# Altium integrated library National Semiconductor Amplifier.IntLib: 1665 symbols (part 26 of 44)
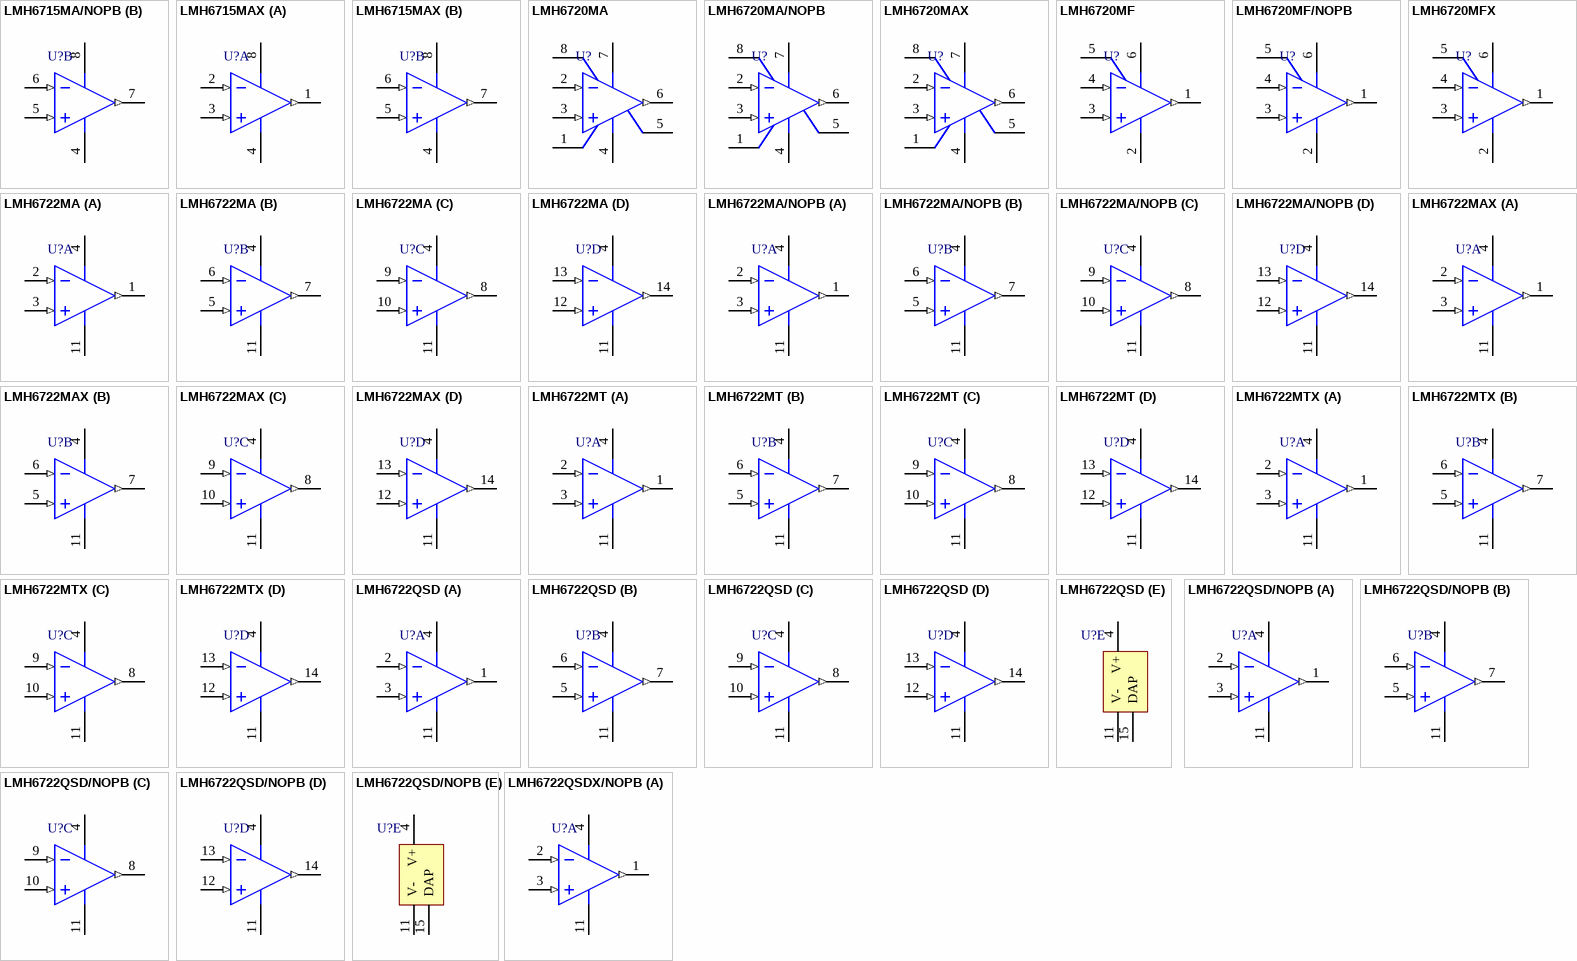
[diagram p109: symbols LMH6715MA/NOPB to LMH6722QSDX/NOPB]

## LMH6722MA/NOPB
designator U?
Quad Wideband Video Op Amp, 14-pin Narrow SOIC, Pb-Free; PartNumber: LMH6722MA/NOPB; Manufacturer: National Semiconductor; PackageTopMarking: NSUZXYTTE#*LMH67*22MA; PowerWise: Y; CompType: Amplifiers; DatasheetVersion: Oct-2008; PackageVersion: revJ, Jan-1996; PackageReference: M14A; PackageDescription: Molded Package S.O., .150in Wide, 14 Lead; RoHS: Y; PinCount: 14; High-Reliability: Y; Code_JEDEC: MS-012AB; Code_IPC: SOIC127P600-14; ComponentLink1Description: Manufacturer URL; ComponentLink1URL: http://www.national.com/; ComponentLink2Description: LMH6722 Datasheet; ComponentLink2URL: http://www.national.com/ds/LM/LMH6722.pdf; ComponentLink3Description: LMH6722 Web Page; ComponentLink3URL: http://www.national.com/pf/LM/LMH6722.html; ComponentLink4Description: M14A Package Page; ComponentLink4URL: http://www.national.com/packaging/folders/m14a.html
footprint M14A_N (SOIC, 14-Leads, Body 8.6x3.9mm, Pitch 1.27mm, IPC Medium Density)
footprint M14A_L (SOIC, 14-Leads, Body 8.6x3.9mm, Pitch 1.27mm, IPC High Density)
footprint M14A_M (SOIC, 14-Leads, Body 8.6x3.9mm, Pitch 1.27mm, IPC Low Density)
pins on every part: 4 V+ (power), 11 V- (power)
part A pins: 1 OUTA (out), 2 INA- (in), 3 INA+ (in)
part B pins: 5 INB+ (in), 6 INB- (in), 7 OUTB (out)
part C pins: 8 OUTC (out), 9 INC- (in), 10 INC+ (in)
part D pins: 12 IND+ (in), 13 IND- (in), 14 OUTD (out)

## LMH6722MAX
designator U?
Quad Wideband Video Op Amp, 14-pin Narrow SOIC; PartNumber: LMH6722MAX; Manufacturer: National Semiconductor; PackageTopMarking: NSUZXYTTE#*LMH67*22MA; PowerWise: Y; CompType: Amplifiers; DatasheetVersion: Oct-2008; PackageVersion: revJ, Jan-1996; PackageReference: M14A; PackageDescription: Molded Package S.O., .150in Wide, 14 Lead; RoHS: N; PinCount: 14; High-Reliability: Y; Code_JEDEC: MS-012AB; Code_IPC: SOIC127P600-14; ComponentLink1Description: Manufacturer URL; ComponentLink1URL: http://www.national.com/; ComponentLink2Description: LMH6722 Datasheet; ComponentLink2URL: http://www.national.com/ds/LM/LMH6722.pdf; ComponentLink3Description: LMH6722 Web Page; ComponentLink3URL: http://www.national.com/pf/LM/LMH6722.html; ComponentLink4Description: M14A Package Page; ComponentLink4URL: http://www.national.com/packaging/folders/m14a.html
footprint M14A_N (SOIC, 14-Leads, Body 8.6x3.9mm, Pitch 1.27mm, IPC Medium Density)
footprint M14A_L (SOIC, 14-Leads, Body 8.6x3.9mm, Pitch 1.27mm, IPC High Density)
footprint M14A_M (SOIC, 14-Leads, Body 8.6x3.9mm, Pitch 1.27mm, IPC Low Density)
pins on every part: 4 V+ (power), 11 V- (power)
part A pins: 1 OUTA (out), 2 INA- (in), 3 INA+ (in)
part B pins: 5 INB+ (in), 6 INB- (in), 7 OUTB (out)
part C pins: 8 OUTC (out), 9 INC- (in), 10 INC+ (in)
part D pins: 12 IND+ (in), 13 IND- (in), 14 OUTD (out)

## LMH6722MT
designator U?
Quad Wideband Video Op Amp, 14-pin TSSOP; PartNumber: LMH6722MT; Manufacturer: National Semiconductor; PackageTopMarking: NSUZXYTT*LMH67*22MT; PowerWise: Y; CompType: Amplifiers; DatasheetVersion: Oct-2008; PackageVersion: revD, Jun-2003; PackageReference: MTC14; PackageDescription: Molded TSSOP, JEDEC, 5 x 4.4 x 0.9mm Body, 14 Lead, 0.65mm Pitch; RoHS: N; PinCount: 14; High-Reliability: Y; Code_JEDEC: MO-153-AB-1; ComponentLink1Description: Manufacturer URL; ComponentLink1URL: http://www.national.com/; ComponentLink2Description: LMH6722 Datasheet; ComponentLink2URL: http://www.national.com/ds/LM/LMH6722.pdf; ComponentLink3Description: LMH6722 Web Page; ComponentLink3URL: http://www.national.com/pf/LM/LMH6722.html; ComponentLink4Description: MTC14 Package Page; ComponentLink4URL: http://www.national.com/packaging/folders/mtc14.html
footprint MTC14_N (TSOP, 14-Leads, Body 5x4.4mm, Pitch 0.65mm, IPC Medium Density)
footprint MTC14_L (TSOP, 14-Leads, Body 5x4.4mm, Pitch 0.65mm, IPC High Density)
footprint MTC14_M (TSOP, 14-Leads, Body 5x4.4mm, Pitch 0.65mm, IPC Low Density)
pins on every part: 4 V+ (power), 11 V- (power)
part A pins: 1 OUTA (out), 2 INA- (in), 3 INA+ (in)
part B pins: 5 INB+ (in), 6 INB- (in), 7 OUTB (out)
part C pins: 8 OUTC (out), 9 INC- (in), 10 INC+ (in)
part D pins: 12 IND+ (in), 13 IND- (in), 14 OUTD (out)

## LMH6722MTX
designator U?
Quad Wideband Video Op Amp, 14-pin TSSOP; PartNumber: LMH6722MTX; Manufacturer: National Semiconductor; PackageTopMarking: NSUZXYTT*LMH67*22MT; PowerWise: Y; CompType: Amplifiers; DatasheetVersion: Oct-2008; PackageVersion: revD, Jun-2003; PackageReference: MTC14; PackageDescription: Molded TSSOP, JEDEC, 5 x 4.4 x 0.9mm Body, 14 Lead, 0.65mm Pitch; RoHS: N; PinCount: 14; High-Reliability: Y; Code_JEDEC: MO-153-AB-1; ComponentLink1Description: Manufacturer URL; ComponentLink1URL: http://www.national.com/; ComponentLink2Description: LMH6722 Datasheet; ComponentLink2URL: http://www.national.com/ds/LM/LMH6722.pdf; ComponentLink3Description: LMH6722 Web Page; ComponentLink3URL: http://www.national.com/pf/LM/LMH6722.html; ComponentLink4Description: MTC14 Package Page; ComponentLink4URL: http://www.national.com/packaging/folders/mtc14.html
footprint MTC14_N (TSOP, 14-Leads, Body 5x4.4mm, Pitch 0.65mm, IPC Medium Density)
footprint MTC14_L (TSOP, 14-Leads, Body 5x4.4mm, Pitch 0.65mm, IPC High Density)
footprint MTC14_M (TSOP, 14-Leads, Body 5x4.4mm, Pitch 0.65mm, IPC Low Density)
pins on every part: 4 V+ (power), 11 V- (power)
part A pins: 1 OUTA (out), 2 INA- (in), 3 INA+ (in)
part B pins: 5 INB+ (in), 6 INB- (in), 7 OUTB (out)
part C pins: 8 OUTC (out), 9 INC- (in), 10 INC+ (in)
part D pins: 12 IND+ (in), 13 IND- (in), 14 OUTD (out)

## LMH6722QSD
designator U?
Quad Wideband Video Op Amp, 14-pin LLP; PartNumber: LMH6722QSD; Manufacturer: National Semiconductor; PackageTopMarking: ZXYTT*L6722Q; PowerWise: N; CompType: Amplifiers; High-Reliability: Y; DatasheetVersion: Oct-2008; PackageVersion: revA, Jun-2003; PackageReference: SDA14A; PackageDescription: LLP, Plastic, Dual, 4 x 3 x 0.8mm Body, 14 Lead, 0.5mm Pitch, No Pullback; RoHS: Y; PinCount: 14; ComponentLink1Description: Manufacturer URL; ComponentLink1URL: http://www.national.com/; ComponentLink2Description: LMH6722Q Datasheet; ComponentLink2URL: http://www.national.com/ds/LM/LMH6722.pdf; ComponentLink3Description: LMH6722Q Web Page; ComponentLink3URL: http://www.national.com/pf/LM/LMH6722Q.html; ComponentLink4Description: SDA14A Package Page; ComponentLink4URL: http://www.national.com/packaging/folders/sda14a.html
footprint SDA14A (SON, 14-Leads, Body 4x3mm, Pitch 0.5mm, NSC Recommended)
pins on every part: 4 V+ (power), 11 V- (power)
part A pins: 1 OUTA (out), 2 INA- (in), 3 INA+ (in)
part B pins: 5 INB+ (in), 6 INB- (in), 7 OUTB (out)
part C pins: 8 OUTC (out), 9 INC- (in), 10 INC+ (in)
part D pins: 12 IND+ (in), 13 IND- (in), 14 OUTD (out)
part E pins: 15 DAP

## LMH6722QSD/NOPB
designator U?
Quad Wideband Video Op Amp, 14-pin LLP, Pb-Free; PartNumber: LMH6722QSD/NOPB; Manufacturer: National Semiconductor; PackageTopMarking: ZXYTTE#*L6722Q; PowerWise: Y; CompType: Amplifiers; DatasheetVersion: Oct-2008; PackageVersion: revA, Jun-2003; PackageReference: SDA14A; PackageDescription: LLP, Plastic, Dual, 4 x 3 x 0.8mm Body, 14 Lead, 0.5mm Pitch, No Pullback; RoHS: Y; PinCount: 14; High-Reliability: Y; ComponentLink1Description: Manufacturer URL; ComponentLink1URL: http://www.national.com/; ComponentLink2Description: LMH6722 Datasheet; ComponentLink2URL: http://www.national.com/ds/LM/LMH6722.pdf; ComponentLink3Description: LMH6722 Web Page; ComponentLink3URL: http://www.national.com/pf/LM/LMH6722.html; ComponentLink4Description: SDA14A Package Page; ComponentLink4URL: http://www.national.com/packaging/folders/sda14a.html
footprint SDA14A (SON, 14-Leads, Body 4x3mm, Pitch 0.5mm, NSC Recommended)
pins on every part: 4 V+ (power), 11 V- (power)
part A pins: 1 OUTA (out), 2 INA- (in), 3 INA+ (in)
part B pins: 5 INB+ (in), 6 INB- (in), 7 OUTB (out)
part C pins: 8 OUTC (out), 9 INC- (in), 10 INC+ (in)
part D pins: 12 IND+ (in), 13 IND- (in), 14 OUTD (out)
part E pins: 15 DAP

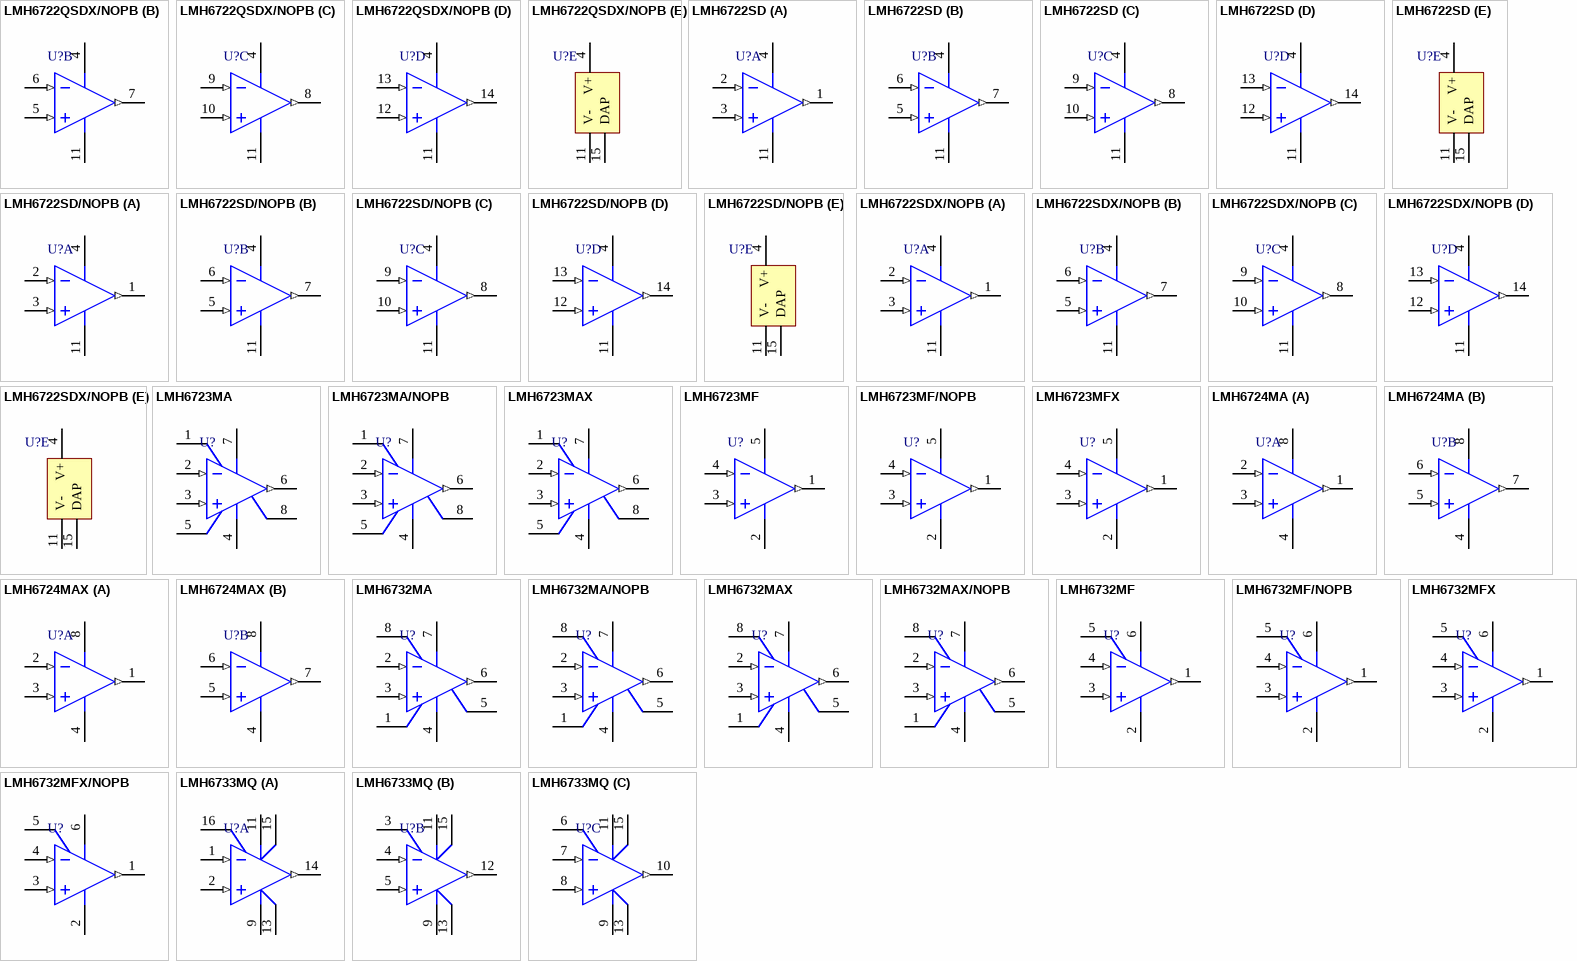
[diagram p52: symbols LMH6722QSDX/NOPB to LMH6733MQ]

## LMH6722QSDX/NOPB
designator U?
Quad Wideband Video Op Amp, 14-pin LLP, Pb-Free; PartNumber: LMH6722QSDX/NOPB; Manufacturer: National Semiconductor; PackageTopMarking: ZXYTTE#*L6722Q; PowerWise: Y; CompType: Amplifiers; DatasheetVersion: Oct-2008; PackageVersion: revA, Jun-2003; PackageReference: SDA14A; PackageDescription: LLP, Plastic, Dual, 4 x 3 x 0.8mm Body, 14 Lead, 0.5mm Pitch, No Pullback; RoHS: Y; PinCount: 14; High-Reliability: Y; ComponentLink1Description: Manufacturer URL; ComponentLink1URL: http://www.national.com/; ComponentLink2Description: LMH6722 Datasheet; ComponentLink2URL: http://www.national.com/ds/LM/LMH6722.pdf; ComponentLink3Description: LMH6722 Web Page; ComponentLink3URL: http://www.national.com/pf/LM/LMH6722.html; ComponentLink4Description: SDA14A Package Page; ComponentLink4URL: http://www.national.com/packaging/folders/sda14a.html
footprint SDA14A (SON, 14-Leads, Body 4x3mm, Pitch 0.5mm, NSC Recommended)
pins on every part: 4 V+ (power), 11 V- (power)
part A pins: 1 OUTA (out), 2 INA- (in), 3 INA+ (in)
part B pins: 5 INB+ (in), 6 INB- (in), 7 OUTB (out)
part C pins: 8 OUTC (out), 9 INC- (in), 10 INC+ (in)
part D pins: 12 IND+ (in), 13 IND- (in), 14 OUTD (out)
part E pins: 15 DAP

## LMH6722SD
designator U?
Quad Wideband Video Op Amp, 14-pin LLP; PartNumber: LMH6722SD; Manufacturer: National Semiconductor; PackageTopMarking: ZXYTT*L6722; PowerWise: N; CompType: Amplifiers; High-Reliability: Y; DatasheetVersion: Oct-2008; PackageVersion: revA, Jun-2003; PackageReference: SDA14A; PackageDescription: LLP, Plastic, Dual, 4 x 3 x 0.8mm Body, 14 Lead, 0.5mm Pitch, No Pullback; RoHS: Y; PinCount: 14; ComponentLink1Description: Manufacturer URL; ComponentLink1URL: http://www.national.com/; ComponentLink2Description: LMH6722 Datasheet; ComponentLink2URL: http://www.national.com/ds/LM/LMH6722.pdf; ComponentLink3Description: LMH6722 Web Page; ComponentLink3URL: http://www.national.com/pf/LM/LMH6722.html; ComponentLink4Description: SDA14A Package Page; ComponentLink4URL: http://www.national.com/packaging/folders/sda14a.html
footprint SDA14A (SON, 14-Leads, Body 4x3mm, Pitch 0.5mm, NSC Recommended)
pins on every part: 4 V+ (power), 11 V- (power)
part A pins: 1 OUTA (out), 2 INA- (in), 3 INA+ (in)
part B pins: 5 INB+ (in), 6 INB- (in), 7 OUTB (out)
part C pins: 8 OUTC (out), 9 INC- (in), 10 INC+ (in)
part D pins: 12 IND+ (in), 13 IND- (in), 14 OUTD (out)
part E pins: 15 DAP

## LMH6722SD/NOPB
designator U?
Quad Wideband Video Op Amp, 14-pin LLP, Pb-Free; PartNumber: LMH6722SD/NOPB; Manufacturer: National Semiconductor; PackageTopMarking: ZXYTTE#*L6722; PowerWise: Y; CompType: Amplifiers; DatasheetVersion: Oct-2008; PackageVersion: revA, Jun-2003; PackageReference: SDA14A; PackageDescription: LLP, Plastic, Dual, 4 x 3 x 0.8mm Body, 14 Lead, 0.5mm Pitch, No Pullback; RoHS: Y; PinCount: 14; High-Reliability: Y; ComponentLink1Description: Manufacturer URL; ComponentLink1URL: http://www.national.com/; ComponentLink2Description: LMH6722 Datasheet; ComponentLink2URL: http://www.national.com/ds/LM/LMH6722.pdf; ComponentLink3Description: LMH6722 Web Page; ComponentLink3URL: http://www.national.com/pf/LM/LMH6722.html; ComponentLink4Description: SDA14A Package Page; ComponentLink4URL: http://www.national.com/packaging/folders/sda14a.html
footprint SDA14A (SON, 14-Leads, Body 4x3mm, Pitch 0.5mm, NSC Recommended)
pins on every part: 4 V+ (power), 11 V- (power)
part A pins: 1 OUTA (out), 2 INA- (in), 3 INA+ (in)
part B pins: 5 INB+ (in), 6 INB- (in), 7 OUTB (out)
part C pins: 8 OUTC (out), 9 INC- (in), 10 INC+ (in)
part D pins: 12 IND+ (in), 13 IND- (in), 14 OUTD (out)
part E pins: 15 DAP

## LMH6722SDX/NOPB
designator U?
Quad Wideband Video Op Amp, 14-pin LLP, Pb-Free; PartNumber: LMH6722SDX/NOPB; Manufacturer: National Semiconductor; PackageTopMarking: ZXYTTE#*L6722; PowerWise: Y; CompType: Amplifiers; DatasheetVersion: Oct-2008; PackageVersion: revA, Jun-2003; PackageReference: SDA14A; PackageDescription: LLP, Plastic, Dual, 4 x 3 x 0.8mm Body, 14 Lead, 0.5mm Pitch, No Pullback; RoHS: Y; PinCount: 14; High-Reliability: Y; ComponentLink1Description: Manufacturer URL; ComponentLink1URL: http://www.national.com/; ComponentLink2Description: LMH6722 Datasheet; ComponentLink2URL: http://www.national.com/ds/LM/LMH6722.pdf; ComponentLink3Description: LMH6722 Web Page; ComponentLink3URL: http://www.national.com/pf/LM/LMH6722.html; ComponentLink4Description: SDA14A Package Page; ComponentLink4URL: http://www.national.com/packaging/folders/sda14a.html
footprint SDA14A (SON, 14-Leads, Body 4x3mm, Pitch 0.5mm, NSC Recommended)
pins on every part: 4 V+ (power), 11 V- (power)
part A pins: 1 OUTA (out), 2 INA- (in), 3 INA+ (in)
part B pins: 5 INB+ (in), 6 INB- (in), 7 OUTB (out)
part C pins: 8 OUTC (out), 9 INC- (in), 10 INC+ (in)
part D pins: 12 IND+ (in), 13 IND- (in), 14 OUTD (out)
part E pins: 15 DAP

## LMH6723MA
designator U?
Single/Quad 370 MHz 1 mA Current Feedback Op Amp, 8-pin Narrow SOIC; PartNumber: LMH6723MA; Manufacturer: National Semiconductor; PackageTopMarking: NSZXTT*LMH67*23MA; PowerWise: Y; CompType: Amplifiers; DatasheetVersion: Aug-2005; PackageVersion: revM, May-2009; PackageReference: M08A; PackageDescription: SOIC Narrow, 4.9 x 3.9 x 1.45mm, 8 Lead, 1.27mm Pitch; RoHS: N; PinCount: 8; High-Reliability: Y; Code_JEDEC: MS-012-AA; Code_IPC: SOIC127P600-8; ComponentLink1Description: Manufacturer URL; ComponentLink1URL: http://www.national.com/; ComponentLink2Description: LMH6723 Datasheet; ComponentLink2URL: http://www.national.com/ds/LM/LMH6723.pdf; ComponentLink3Description: LMH6723 Web Page; ComponentLink3URL: http://www.national.com/pf/LM/LMH6723.html; ComponentLink4Description: M08A Package Page; ComponentLink4URL: http://www.national.com/packaging/folders/m08a.html
footprint M08A_N (SOIC, 8-Leads, Body 4.9x3.9mm, Pitch 1.27mm, IPC Medium Density)
footprint M08A_L (SOIC, 8-Leads, Body 4.9x3.9mm, Pitch 1.27mm, IPC High Density)
footprint M08A_M (SOIC, 8-Leads, Body 4.9x3.9mm, Pitch 1.27mm, IPC Low Density)
pins: 1 NC, 2 IN- (in), 3 IN+ (in), 4 V- (power), 5 NC, 6 OUT (out), 7 V+ (power), 8 NC

## LMH6723MA/NOPB
designator U?
Single/Quad 370 MHz 1 mA Current Feedback Op Amp, 8-pin Narrow SOIC, Pb-Free; PartNumber: LMH6723MA/NOPB; Manufacturer: National Semiconductor; PackageTopMarking: NSZXTT*LMH67*23MA; PowerWise: Y; CompType: Amplifiers; DatasheetVersion: Aug-2005; PackageVersion: revM, May-2009; PackageReference: M08A; PackageDescription: SOIC Narrow, 4.9 x 3.9 x 1.45mm, 8 Lead, 1.27mm Pitch; RoHS: Y; PinCount: 8; High-Reliability: Y; Code_JEDEC: MS-012-AA; Code_IPC: SOIC127P600-8; ComponentLink1Description: Manufacturer URL; ComponentLink1URL: http://www.national.com/; ComponentLink2Description: LMH6723 Datasheet; ComponentLink2URL: http://www.national.com/ds/LM/LMH6723.pdf; ComponentLink3Description: LMH6723 Web Page; ComponentLink3URL: http://www.national.com/pf/LM/LMH6723.html; ComponentLink4Description: M08A Package Page; ComponentLink4URL: http://www.national.com/packaging/folders/m08a.html
footprint M08A_N (SOIC, 8-Leads, Body 4.9x3.9mm, Pitch 1.27mm, IPC Medium Density)
footprint M08A_L (SOIC, 8-Leads, Body 4.9x3.9mm, Pitch 1.27mm, IPC High Density)
footprint M08A_M (SOIC, 8-Leads, Body 4.9x3.9mm, Pitch 1.27mm, IPC Low Density)
pins: 1 NC, 2 IN- (in), 3 IN+ (in), 4 V- (power), 5 NC, 6 OUT (out), 7 V+ (power), 8 NC

## LMH6723MAX
designator U?
Single/Quad 370 MHz 1 mA Current Feedback Op Amp, 8-pin Narrow SOIC; PartNumber: LMH6723MAX; Manufacturer: National Semiconductor; PackageTopMarking: NSZXTT*LMH67*23MA; PowerWise: Y; CompType: Amplifiers; DatasheetVersion: Aug-2005; PackageVersion: revM, May-2009; PackageReference: M08A; PackageDescription: SOIC Narrow, 4.9 x 3.9 x 1.45mm, 8 Lead, 1.27mm Pitch; RoHS: N; PinCount: 8; High-Reliability: Y; Code_JEDEC: MS-012-AA; Code_IPC: SOIC127P600-8; ComponentLink1Description: Manufacturer URL; ComponentLink1URL: http://www.national.com/; ComponentLink2Description: LMH6723 Datasheet; ComponentLink2URL: http://www.national.com/ds/LM/LMH6723.pdf; ComponentLink3Description: LMH6723 Web Page; ComponentLink3URL: http://www.national.com/pf/LM/LMH6723.html; ComponentLink4Description: M08A Package Page; ComponentLink4URL: http://www.national.com/packaging/folders/m08a.html
footprint M08A_N (SOIC, 8-Leads, Body 4.9x3.9mm, Pitch 1.27mm, IPC Medium Density)
footprint M08A_L (SOIC, 8-Leads, Body 4.9x3.9mm, Pitch 1.27mm, IPC High Density)
footprint M08A_M (SOIC, 8-Leads, Body 4.9x3.9mm, Pitch 1.27mm, IPC Low Density)
pins: 1 NC, 2 IN- (in), 3 IN+ (in), 4 V- (power), 5 NC, 6 OUT (out), 7 V+ (power), 8 NC

## LMH6723MF
designator U?
Single/Quad 370 MHz 1 mA Current Feedback Op Amp, 5-pin SOT-23; PartNumber: LMH6723MF; Manufacturer: National Semiconductor; PackageTopMarking: AB1A*XTT; PowerWise: Y; CompType: Amplifiers; DatasheetVersion: Aug-2005; PackageVersion: revD, Aug-2008; PackageReference: MF05A; PackageDescription: Molded SOT-23, .115 x .063 x .040 in Body, 5 Lead, .0375 in Pitch; RoHS: N; PinCount: 5; High-Reliability: Y; ComponentLink1Description: Manufacturer URL; ComponentLink1URL: http://www.national.com/; ComponentLink2Description: LMH6723 Datasheet; ComponentLink2URL: http://www.national.com/ds/LM/LMH6723.pdf; ComponentLink3Description: LMH6723 Web Page; ComponentLink3URL: http://www.national.com/pf/LM/LMH6723.html; ComponentLink4Description: MF05A Package Page; ComponentLink4URL: http://www.national.com/packaging/folders/mf05a.html
footprint MF05A_N (SOT23, 5-Leads, Body 2.9x1.6mm, Pitch 0.95mm, Lead Span 2.8mm, IPC Medium Density)
footprint MF05A_L (SOT23, 5-Leads, Body 2.9x1.6mm, Pitch 0.95mm, Lead Span 2.8mm, IPC High Density)
footprint MF05A_M (SOT23, 5-Leads, Body 2.9x1.6mm, Pitch 0.95mm, Lead Span 2.8mm, IPC Low Density)
pins: 1 OUT (out), 2 V- (power), 3 IN+ (in), 4 IN- (in), 5 V+ (power)

## LMH6723MF/NOPB
designator U?
Single/Quad 370 MHz 1 mA Current Feedback Op Amp, 5-pin SOT-23, Pb-Free; PartNumber: LMH6723MF/NOPB; Manufacturer: National Semiconductor; PackageTopMarking: AB1A*XTT; PowerWise: Y; CompType: Amplifiers; DatasheetVersion: Aug-2005; PackageVersion: revD, Aug-2008; PackageReference: MF05A; PackageDescription: Molded SOT-23, .115 x .063 x .040 in Body, 5 Lead, .0375 in Pitch; RoHS: Y; PinCount: 5; High-Reliability: Y; ComponentLink1Description: Manufacturer URL; ComponentLink1URL: http://www.national.com/; ComponentLink2Description: LMH6723 Datasheet; ComponentLink2URL: http://www.national.com/ds/LM/LMH6723.pdf; ComponentLink3Description: LMH6723 Web Page; ComponentLink3URL: http://www.national.com/pf/LM/LMH6723.html; ComponentLink4Description: MF05A Package Page; ComponentLink4URL: http://www.national.com/packaging/folders/mf05a.html
footprint MF05A_N (SOT23, 5-Leads, Body 2.9x1.6mm, Pitch 0.95mm, Lead Span 2.8mm, IPC Medium Density)
footprint MF05A_L (SOT23, 5-Leads, Body 2.9x1.6mm, Pitch 0.95mm, Lead Span 2.8mm, IPC High Density)
footprint MF05A_M (SOT23, 5-Leads, Body 2.9x1.6mm, Pitch 0.95mm, Lead Span 2.8mm, IPC Low Density)
pins: 1 OUT (out), 2 V- (power), 3 IN+ (in), 4 IN- (in), 5 V+ (power)

## LMH6723MFX
designator U?
Single/Quad 370 MHz 1 mA Current Feedback Op Amp, 5-pin SOT-23; PartNumber: LMH6723MFX; Manufacturer: National Semiconductor; PackageTopMarking: AB1A*XTT; PowerWise: Y; CompType: Amplifiers; DatasheetVersion: Aug-2005; PackageVersion: revD, Aug-2008; PackageReference: MF05A; PackageDescription: Molded SOT-23, .115 x .063 x .040 in Body, 5 Lead, .0375 in Pitch; RoHS: N; PinCount: 5; High-Reliability: Y; ComponentLink1Description: Manufacturer URL; ComponentLink1URL: http://www.national.com/; ComponentLink2Description: LMH6723 Datasheet; ComponentLink2URL: http://www.national.com/ds/LM/LMH6723.pdf; ComponentLink3Description: LMH6723 Web Page; ComponentLink3URL: http://www.national.com/pf/LM/LMH6723.html; ComponentLink4Description: MF05A Package Page; ComponentLink4URL: http://www.national.com/packaging/folders/mf05a.html
footprint MF05A_N (SOT23, 5-Leads, Body 2.9x1.6mm, Pitch 0.95mm, Lead Span 2.8mm, IPC Medium Density)
footprint MF05A_L (SOT23, 5-Leads, Body 2.9x1.6mm, Pitch 0.95mm, Lead Span 2.8mm, IPC High Density)
footprint MF05A_M (SOT23, 5-Leads, Body 2.9x1.6mm, Pitch 0.95mm, Lead Span 2.8mm, IPC Low Density)
pins: 1 OUT (out), 2 V- (power), 3 IN+ (in), 4 IN- (in), 5 V+ (power)

## LMH6724MA
designator U?
Single/Dual/Quad 370 MHz 1 mA Current Feedback Op Amp, 8-pin Narrow SOIC; PartNumber: LMH6724MA; Manufacturer: National Semiconductor; PackageTopMarking: NSZXTT*LMH67*24MA; PowerWise: Y; CompType: Amplifiers; DatasheetVersion: Aug-2005; PackageVersion: revM, May-2009; PackageReference: M08A; PackageDescription: SOIC Narrow, 4.9 x 3.9 x 1.45mm, 8 Lead, 1.27mm Pitch; RoHS: N; PinCount: 8; High-Reliability: Y; Code_JEDEC: MS-012-AA; Code_IPC: SOIC127P600-8; ComponentLink1Description: Manufacturer URL; ComponentLink1URL: http://www.national.com/; ComponentLink2Description: LMH6724 Datasheet; ComponentLink2URL: http://www.national.com/ds/LM/LMH6724.pdf; ComponentLink3Description: LMH6724 Web Page; ComponentLink3URL: http://www.national.com/pf/LM/LMH6724.html; ComponentLink4Description: M08A Package Page; ComponentLink4URL: http://www.national.com/packaging/folders/m08a.html
footprint M08A_N (SOIC, 8-Leads, Body 4.9x3.9mm, Pitch 1.27mm, IPC Medium Density)
footprint M08A_L (SOIC, 8-Leads, Body 4.9x3.9mm, Pitch 1.27mm, IPC High Density)
footprint M08A_M (SOIC, 8-Leads, Body 4.9x3.9mm, Pitch 1.27mm, IPC Low Density)
pins on every part: 4 V- (power), 8 V+ (power)
part A pins: 1 OUTA (out), 2 INA- (in), 3 INA+ (in)
part B pins: 5 INB+ (in), 6 INB- (in), 7 OUTB (out)

## LMH6724MAX
designator U?
Single/Dual/Quad 370 MHz 1 mA Current Feedback Op Amp, 8-pin Narrow SOIC; PartNumber: LMH6724MAX; Manufacturer: National Semiconductor; PackageTopMarking: NSZXTT*LMH67*24MA; PowerWise: Y; CompType: Amplifiers; DatasheetVersion: Aug-2005; PackageVersion: revM, May-2009; PackageReference: M08A; PackageDescription: SOIC Narrow, 4.9 x 3.9 x 1.45mm, 8 Lead, 1.27mm Pitch; RoHS: N; PinCount: 8; High-Reliability: Y; Code_JEDEC: MS-012-AA; Code_IPC: SOIC127P600-8; ComponentLink1Description: Manufacturer URL; ComponentLink1URL: http://www.national.com/; ComponentLink2Description: LMH6724 Datasheet; ComponentLink2URL: http://www.national.com/ds/LM/LMH6724.pdf; ComponentLink3Description: LMH6724 Web Page; ComponentLink3URL: http://www.national.com/pf/LM/LMH6724.html; ComponentLink4Description: M08A Package Page; ComponentLink4URL: http://www.national.com/packaging/folders/m08a.html
footprint M08A_N (SOIC, 8-Leads, Body 4.9x3.9mm, Pitch 1.27mm, IPC Medium Density)
footprint M08A_L (SOIC, 8-Leads, Body 4.9x3.9mm, Pitch 1.27mm, IPC High Density)
footprint M08A_M (SOIC, 8-Leads, Body 4.9x3.9mm, Pitch 1.27mm, IPC Low Density)
pins on every part: 4 V- (power), 8 V+ (power)
part A pins: 1 OUTA (out), 2 INA- (in), 3 INA+ (in)
part B pins: 5 INB+ (in), 6 INB- (in), 7 OUTB (out)

## LMH6732MA
designator U?
High Speed Op Amp with Adjustable Bandwidth, 8-pin Narrow SOIC; PartNumber: LMH6732MA; Manufacturer: National Semiconductor; PackageTopMarking: NSZXTT*LMH67*32MA; PowerWise: Y; CompType: Amplifiers; DatasheetVersion: Mar-2004; PackageVersion: revM, May-2009; PackageReference: M08A; PackageDescription: SOIC Narrow, 4.9 x 3.9 x 1.45mm, 8 Lead, 1.27mm Pitch; RoHS: N; PinCount: 8; High-Reliability: Y; Code_JEDEC: MS-012-AA; Code_IPC: SOIC127P600-8; ComponentLink1Description: Manufacturer URL; ComponentLink1URL: http://www.national.com/; ComponentLink2Description: LMH6732 Datasheet; ComponentLink2URL: http://www.national.com/ds/LM/LMH6732.pdf; ComponentLink3Description: LMH6732 Web Page; ComponentLink3URL: http://www.national.com/pf/LM/LMH6732.html; ComponentLink4Description: M08A Package Page; ComponentLink4URL: http://www.national.com/packaging/folders/m08a.html
footprint M08A_N (SOIC, 8-Leads, Body 4.9x3.9mm, Pitch 1.27mm, IPC Medium Density)
footprint M08A_L (SOIC, 8-Leads, Body 4.9x3.9mm, Pitch 1.27mm, IPC High Density)
footprint M08A_M (SOIC, 8-Leads, Body 4.9x3.9mm, Pitch 1.27mm, IPC Low Density)
pins: 1 NC, 2 IN- (in), 3 IN+ (in), 4 V- (power), 5 NC, 6 OUT (out), 7 V+ (power), 8 RP

## LMH6732MA/NOPB
designator U?
High Speed Op Amp with Adjustable Bandwidth, 8-pin Narrow SOIC, Pb-Free; PartNumber: LMH6732MA/NOPB; Manufacturer: National Semiconductor; PackageTopMarking: NSZXTT*LMH67*32MA; PowerWise: Y; CompType: Amplifiers; DatasheetVersion: Mar-2004; PackageVersion: revM, May-2009; PackageReference: M08A; PackageDescription: SOIC Narrow, 4.9 x 3.9 x 1.45mm, 8 Lead, 1.27mm Pitch; RoHS: Y; PinCount: 8; High-Reliability: Y; Code_JEDEC: MS-012-AA; Code_IPC: SOIC127P600-8; ComponentLink1Description: Manufacturer URL; ComponentLink1URL: http://www.national.com/; ComponentLink2Description: LMH6732 Datasheet; ComponentLink2URL: http://www.national.com/ds/LM/LMH6732.pdf; ComponentLink3Description: LMH6732 Web Page; ComponentLink3URL: http://www.national.com/pf/LM/LMH6732.html; ComponentLink4Description: M08A Package Page; ComponentLink4URL: http://www.national.com/packaging/folders/m08a.html
footprint M08A_N (SOIC, 8-Leads, Body 4.9x3.9mm, Pitch 1.27mm, IPC Medium Density)
footprint M08A_L (SOIC, 8-Leads, Body 4.9x3.9mm, Pitch 1.27mm, IPC High Density)
footprint M08A_M (SOIC, 8-Leads, Body 4.9x3.9mm, Pitch 1.27mm, IPC Low Density)
pins: 1 NC, 2 IN- (in), 3 IN+ (in), 4 V- (power), 5 NC, 6 OUT (out), 7 V+ (power), 8 RP

## LMH6732MAX
designator U?
High Speed Op Amp with Adjustable Bandwidth, 8-pin Narrow SOIC; PartNumber: LMH6732MAX; Manufacturer: National Semiconductor; PackageTopMarking: NSZXTT*LMH67*32MA; PowerWise: Y; CompType: Amplifiers; DatasheetVersion: Mar-2004; PackageVersion: revM, May-2009; PackageReference: M08A; PackageDescription: SOIC Narrow, 4.9 x 3.9 x 1.45mm, 8 Lead, 1.27mm Pitch; RoHS: N; PinCount: 8; High-Reliability: Y; Code_JEDEC: MS-012-AA; Code_IPC: SOIC127P600-8; ComponentLink1Description: Manufacturer URL; ComponentLink1URL: http://www.national.com/; ComponentLink2Description: LMH6732 Datasheet; ComponentLink2URL: http://www.national.com/ds/LM/LMH6732.pdf; ComponentLink3Description: LMH6732 Web Page; ComponentLink3URL: http://www.national.com/pf/LM/LMH6732.html; ComponentLink4Description: M08A Package Page; ComponentLink4URL: http://www.national.com/packaging/folders/m08a.html
footprint M08A_N (SOIC, 8-Leads, Body 4.9x3.9mm, Pitch 1.27mm, IPC Medium Density)
footprint M08A_L (SOIC, 8-Leads, Body 4.9x3.9mm, Pitch 1.27mm, IPC High Density)
footprint M08A_M (SOIC, 8-Leads, Body 4.9x3.9mm, Pitch 1.27mm, IPC Low Density)
pins: 1 NC, 2 IN- (in), 3 IN+ (in), 4 V- (power), 5 NC, 6 OUT (out), 7 V+ (power), 8 RP

## LMH6732MAX/NOPB
designator U?
High Speed Op Amp with Adjustable Bandwidth, 8-pin Narrow SOIC, Pb-Free; PartNumber: LMH6732MAX/NOPB; Manufacturer: National Semiconductor; PackageTopMarking: NSZXTT*LMH67*32MA; PowerWise: Y; CompType: Amplifiers; DatasheetVersion: Mar-2004; PackageVersion: revM, May-2009; PackageReference: M08A; PackageDescription: SOIC Narrow, 4.9 x 3.9 x 1.45mm, 8 Lead, 1.27mm Pitch; RoHS: Y; PinCount: 8; High-Reliability: Y; Code_JEDEC: MS-012-AA; Code_IPC: SOIC127P600-8; ComponentLink1Description: Manufacturer URL; ComponentLink1URL: http://www.national.com/; ComponentLink2Description: LMH6732 Datasheet; ComponentLink2URL: http://www.national.com/ds/LM/LMH6732.pdf; ComponentLink3Description: LMH6732 Web Page; ComponentLink3URL: http://www.national.com/pf/LM/LMH6732.html; ComponentLink4Description: M08A Package Page; ComponentLink4URL: http://www.national.com/packaging/folders/m08a.html
footprint M08A_N (SOIC, 8-Leads, Body 4.9x3.9mm, Pitch 1.27mm, IPC Medium Density)
footprint M08A_L (SOIC, 8-Leads, Body 4.9x3.9mm, Pitch 1.27mm, IPC High Density)
footprint M08A_M (SOIC, 8-Leads, Body 4.9x3.9mm, Pitch 1.27mm, IPC Low Density)
pins: 1 NC, 2 IN- (in), 3 IN+ (in), 4 V- (power), 5 NC, 6 OUT (out), 7 V+ (power), 8 RP

## LMH6732MF
designator U?
High Speed Op Amp with Adjustable Bandwidth, 6-pin SOT-23; PartNumber: LMH6732MF; Manufacturer: National Semiconductor; PackageTopMarking: A97A*XTT; PowerWise: Y; CompType: Amplifiers; DatasheetVersion: Mar-2004; PackageVersion: revC, Sep-2005; PackageReference: MF06A; PackageDescription: Molded SOT-23, .115 x .063 x .040in Body, 6 Lead, .0375in in Pitch; RoHS: N; PinCount: 6; High-Reliability: Y; Code_JEDEC: MO-178-AB; Code_IPC: SOT26A-6; ComponentLink1Description: Manufacturer URL; ComponentLink1URL: http://www.national.com/; ComponentLink2Description: LMH6732 Datasheet; ComponentLink2URL: http://www.national.com/ds/LM/LMH6732.pdf; ComponentLink3Description: LMH6732 Web Page; ComponentLink3URL: http://www.national.com/pf/LM/LMH6732.html; ComponentLink4Description: MF06A Package Page; ComponentLink4URL: http://www.national.com/packaging/folders/mf06a.html
footprint MF06A_N (SOT23, 6-Leads, Body 2.9x1.6mm, Pitch 0.95mm, Lead Span 2.8mm, IPC Medium Density)
footprint MF06A_L (SOT23, 6-Leads, Body 2.9x1.6mm, Pitch 0.95mm, Lead Span 2.8mm, IPC High Density)
footprint MF06A_M (SOT23, 6-Leads, Body 2.9x1.6mm, Pitch 0.95mm, Lead Span 2.8mm, IPC Low Density)
pins: 1 OUT (out), 2 V- (power), 3 IN+ (in), 4 IN- (in), 5 RP, 6 V+ (power)

## LMH6732MF/NOPB
designator U?
High Speed Op Amp with Adjustable Bandwidth, 6-pin SOT-23, Pb-Free; PartNumber: LMH6732MF/NOPB; Manufacturer: National Semiconductor; PackageTopMarking: A97A*XTT; PowerWise: Y; CompType: Amplifiers; DatasheetVersion: Mar-2004; PackageVersion: revC, Sep-2005; PackageReference: MF06A; PackageDescription: Molded SOT-23, .115 x .063 x .040in Body, 6 Lead, .0375in in Pitch; RoHS: Y; PinCount: 6; High-Reliability: Y; Code_JEDEC: MO-178-AB; Code_IPC: SOT26A-6; ComponentLink1Description: Manufacturer URL; ComponentLink1URL: http://www.national.com/; ComponentLink2Description: LMH6732 Datasheet; ComponentLink2URL: http://www.national.com/ds/LM/LMH6732.pdf; ComponentLink3Description: LMH6732 Web Page; ComponentLink3URL: http://www.national.com/pf/LM/LMH6732.html; ComponentLink4Description: MF06A Package Page; ComponentLink4URL: http://www.national.com/packaging/folders/mf06a.html
footprint MF06A_N (SOT23, 6-Leads, Body 2.9x1.6mm, Pitch 0.95mm, Lead Span 2.8mm, IPC Medium Density)
footprint MF06A_L (SOT23, 6-Leads, Body 2.9x1.6mm, Pitch 0.95mm, Lead Span 2.8mm, IPC High Density)
footprint MF06A_M (SOT23, 6-Leads, Body 2.9x1.6mm, Pitch 0.95mm, Lead Span 2.8mm, IPC Low Density)
pins: 1 OUT (out), 2 V- (power), 3 IN+ (in), 4 IN- (in), 5 RP, 6 V+ (power)

## LMH6732MFX
designator U?
High Speed Op Amp with Adjustable Bandwidth, 6-pin SOT-23; PartNumber: LMH6732MFX; Manufacturer: National Semiconductor; PackageTopMarking: A97A*XTT; PowerWise: Y; CompType: Amplifiers; DatasheetVersion: Mar-2004; PackageVersion: revC, Sep-2005; PackageReference: MF06A; PackageDescription: Molded SOT-23, .115 x .063 x .040in Body, 6 Lead, .0375in in Pitch; RoHS: N; PinCount: 6; High-Reliability: Y; Code_JEDEC: MO-178-AB; Code_IPC: SOT26A-6; ComponentLink1Description: Manufacturer URL; ComponentLink1URL: http://www.national.com/; ComponentLink2Description: LMH6732 Datasheet; ComponentLink2URL: http://www.national.com/ds/LM/LMH6732.pdf; ComponentLink3Description: LMH6732 Web Page; ComponentLink3URL: http://www.national.com/pf/LM/LMH6732.html; ComponentLink4Description: MF06A Package Page; ComponentLink4URL: http://www.national.com/packaging/folders/mf06a.html
footprint MF06A_N (SOT23, 6-Leads, Body 2.9x1.6mm, Pitch 0.95mm, Lead Span 2.8mm, IPC Medium Density)
footprint MF06A_L (SOT23, 6-Leads, Body 2.9x1.6mm, Pitch 0.95mm, Lead Span 2.8mm, IPC High Density)
footprint MF06A_M (SOT23, 6-Leads, Body 2.9x1.6mm, Pitch 0.95mm, Lead Span 2.8mm, IPC Low Density)
pins: 1 OUT (out), 2 V- (power), 3 IN+ (in), 4 IN- (in), 5 RP, 6 V+ (power)

## LMH6732MFX/NOPB
designator U?
High Speed Op Amp with Adjustable Bandwidth, 6-pin SOT-23, Pb-Free; PartNumber: LMH6732MFX/NOPB; Manufacturer: National Semiconductor; PackageTopMarking: A97A*XTT; PowerWise: Y; CompType: Amplifiers; DatasheetVersion: Mar-2004; PackageVersion: revC, Sep-2005; PackageReference: MF06A; PackageDescription: Molded SOT-23, .115 x .063 x .040in Body, 6 Lead, .0375in in Pitch; RoHS: Y; PinCount: 6; High-Reliability: Y; Code_JEDEC: MO-178-AB; Code_IPC: SOT26A-6; ComponentLink1Description: Manufacturer URL; ComponentLink1URL: http://www.national.com/; ComponentLink2Description: LMH6732 Datasheet; ComponentLink2URL: http://www.national.com/ds/LM/LMH6732.pdf; ComponentLink3Description: LMH6732 Web Page; ComponentLink3URL: http://www.national.com/pf/LM/LMH6732.html; ComponentLink4Description: MF06A Package Page; ComponentLink4URL: http://www.national.com/packaging/folders/mf06a.html
footprint MF06A_N (SOT23, 6-Leads, Body 2.9x1.6mm, Pitch 0.95mm, Lead Span 2.8mm, IPC Medium Density)
footprint MF06A_L (SOT23, 6-Leads, Body 2.9x1.6mm, Pitch 0.95mm, Lead Span 2.8mm, IPC High Density)
footprint MF06A_M (SOT23, 6-Leads, Body 2.9x1.6mm, Pitch 0.95mm, Lead Span 2.8mm, IPC Low Density)
pins: 1 OUT (out), 2 V- (power), 3 IN+ (in), 4 IN- (in), 5 RP, 6 V+ (power)

## LMH6733MQ
designator U?
Single Supply, 1.0 GHz, Triple Operational Amplifier, 16-pin SSOP; PartNumber: LMH6733MQ; Manufacturer: National Semiconductor; PackageTopMarking: NSXYTT*LH67*33MQ; PowerWise: Y; CompType: Amplifiers; DatasheetVersion: Feb-2009; PackageVersion: revB, Jan-2005; PackageReference: MQA16; PackageDescription: SSOP, .150in Body Width, .025in Pitch, 16 Lead; RoHS: Y; PinCount: 16; High-Reliability: Y; Code_JEDEC: MO-137-AB; ComponentLink1Description: Manufacturer URL; ComponentLink1URL: http://www.national.com/; ComponentLink2Description: LMH6733 Datasheet; ComponentLink2URL: http://www.national.com/ds/LM/LMH6733.pdf; ComponentLink3Description: LMH6733 Web Page; ComponentLink3URL: http://www.national.com/pf/LM/LMH6733.html; ComponentLink4Description: MQA16 Package Page; ComponentLink4URL: http://www.national.com/packaging/folders/mqa16.html
footprint MQA16_N (SOP, 16-Leads, Body 4.9x3.9mm, Pitch 0.635mm, IPC Medium Density)
footprint MQA16_L (SOP, 16-Leads, Body 4.9x3.9mm, Pitch 0.635mm, IPC High Density)
footprint MQA16_M (SOP, 16-Leads, Body 4.9x3.9mm, Pitch 0.635mm, IPC Low Density)
pins on every part: 9 VS- (power), 11 VS+ (power), 13 VS- (power), 15 VS+ (power)
part A pins: 1 INA- (in), 2 INA+ (in), 14 OUTA (out), 16 ~{DIS A}
part B pins: 3 ~{DIS B}, 4 INB- (in), 5 INB+ (in), 12 OUTB (out)
part C pins: 6 ~{DIS C}, 7 INC- (in), 8 INC+ (in), 10 OUTC (out)

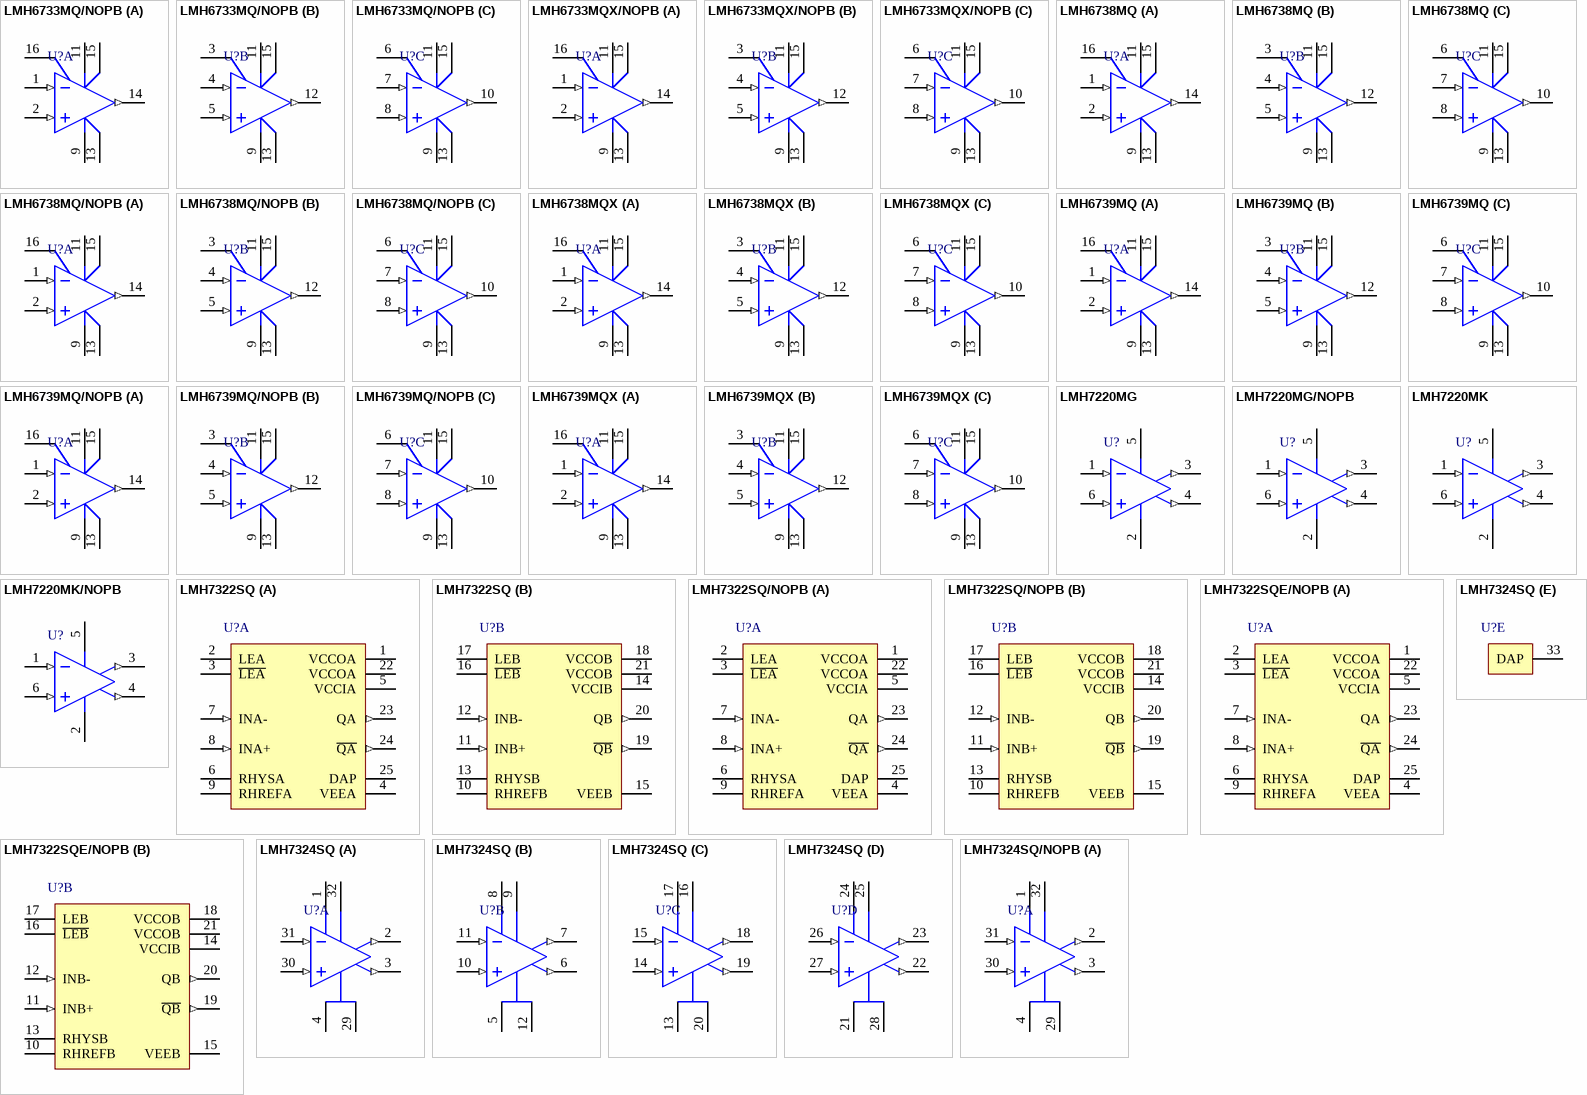
[diagram p53: symbols LMH6733MQ/NOPB to LMH7324SQ/NOPB]

## LMH6733MQ/NOPB
designator U?
Single Supply, 1.0 GHz, Triple Operational Amplifier, 16-pin SSOP, Pb-Free; PartNumber: LMH6733MQ/NOPB; Manufacturer: National Semiconductor; PackageTopMarking: NSXYTT*LH67*33MQ; PowerWise: Y; CompType: Amplifiers; DatasheetVersion: Feb-2009; PackageVersion: revB, Jan-2005; PackageReference: MQA16; PackageDescription: SSOP, .150in Body Width, .025in Pitch, 16 Lead; RoHS: Y; PinCount: 16; High-Reliability: Y; Code_JEDEC: MO-137-AB; ComponentLink1Description: Manufacturer URL; ComponentLink1URL: http://www.national.com/; ComponentLink2Description: LMH6733 Datasheet; ComponentLink2URL: http://www.national.com/ds/LM/LMH6733.pdf; ComponentLink3Description: LMH6733 Web Page; ComponentLink3URL: http://www.national.com/pf/LM/LMH6733.html; ComponentLink4Description: MQA16 Package Page; ComponentLink4URL: http://www.national.com/packaging/folders/mqa16.html
footprint MQA16_N (SOP, 16-Leads, Body 4.9x3.9mm, Pitch 0.635mm, IPC Medium Density)
footprint MQA16_L (SOP, 16-Leads, Body 4.9x3.9mm, Pitch 0.635mm, IPC High Density)
footprint MQA16_M (SOP, 16-Leads, Body 4.9x3.9mm, Pitch 0.635mm, IPC Low Density)
pins on every part: 9 VS- (power), 11 VS+ (power), 13 VS- (power), 15 VS+ (power)
part A pins: 1 INA- (in), 2 INA+ (in), 14 OUTA (out), 16 ~{DIS A}
part B pins: 3 ~{DIS B}, 4 INB- (in), 5 INB+ (in), 12 OUTB (out)
part C pins: 6 ~{DIS C}, 7 INC- (in), 8 INC+ (in), 10 OUTC (out)

## LMH6733MQX/NOPB
designator U?
Single Supply, 1.0 GHz, Triple Operational Amplifier, 16-pin SSOP, Pb-Free; PartNumber: LMH6733MQX/NOPB; Manufacturer: National Semiconductor; PackageTopMarking: NSXYTT*LH67*33MQ; PowerWise: Y; CompType: Amplifiers; DatasheetVersion: Feb-2009; PackageVersion: revB, Jan-2005; PackageReference: MQA16; PackageDescription: SSOP, .150in Body Width, .025in Pitch, 16 Lead; RoHS: Y; PinCount: 16; High-Reliability: Y; Code_JEDEC: MO-137-AB; ComponentLink1Description: Manufacturer URL; ComponentLink1URL: http://www.national.com/; ComponentLink2Description: LMH6733 Datasheet; ComponentLink2URL: http://www.national.com/ds/LM/LMH6733.pdf; ComponentLink3Description: LMH6733 Web Page; ComponentLink3URL: http://www.national.com/pf/LM/LMH6733.html; ComponentLink4Description: MQA16 Package Page; ComponentLink4URL: http://www.national.com/packaging/folders/mqa16.html
footprint MQA16_N (SOP, 16-Leads, Body 4.9x3.9mm, Pitch 0.635mm, IPC Medium Density)
footprint MQA16_L (SOP, 16-Leads, Body 4.9x3.9mm, Pitch 0.635mm, IPC High Density)
footprint MQA16_M (SOP, 16-Leads, Body 4.9x3.9mm, Pitch 0.635mm, IPC Low Density)
pins on every part: 9 VS- (power), 11 VS+ (power), 13 VS- (power), 15 VS+ (power)
part A pins: 1 INA- (in), 2 INA+ (in), 14 OUTA (out), 16 ~{DIS A}
part B pins: 3 ~{DIS B}, 4 INB- (in), 5 INB+ (in), 12 OUTB (out)
part C pins: 6 ~{DIS C}, 7 INC- (in), 8 INC+ (in), 10 OUTC (out)

## LMH6738MQ
designator U?
Very Wideband, Low Distortion Triple Op Amp, 16-pin SSOP; PartNumber: LMH6738MQ; Manufacturer: National Semiconductor; PackageTopMarking: NSXYTT*LH67*38MQ; PowerWise: Y; CompType: Amplifiers; DatasheetVersion: Apr-2006; PackageVersion: revB, Jan-2005; PackageReference: MQA16; PackageDescription: SSOP, .150in Body Width, .025in Pitch, 16 Lead; RoHS: N; PinCount: 16; High-Reliability: Y; Code_JEDEC: MO-137-AB; ComponentLink1Description: Manufacturer URL; ComponentLink1URL: http://www.national.com/; ComponentLink2Description: LMH6738 Datasheet; ComponentLink2URL: http://www.national.com/ds/LM/LMH6738.pdf; ComponentLink3Description: LMH6738 Web Page; ComponentLink3URL: http://www.national.com/pf/LM/LMH6738.html; ComponentLink4Description: MQA16 Package Page; ComponentLink4URL: http://www.national.com/packaging/folders/mqa16.html
footprint MQA16_N (SOP, 16-Leads, Body 4.9x3.9mm, Pitch 0.635mm, IPC Medium Density)
footprint MQA16_L (SOP, 16-Leads, Body 4.9x3.9mm, Pitch 0.635mm, IPC High Density)
footprint MQA16_M (SOP, 16-Leads, Body 4.9x3.9mm, Pitch 0.635mm, IPC Low Density)
pins on every part: 9 VS- (power), 11 VS+ (power), 13 VS- (power), 15 VS+ (power)
part A pins: 1 INA- (in), 2 INA+ (in), 14 OUTA (out), 16 ~{DIS A}
part B pins: 3 ~{DIS B}, 4 INB- (in), 5 INB+ (in), 12 OUTB (out)
part C pins: 6 ~{DIS C}, 7 INC- (in), 8 INC+ (in), 10 OUTC (out)

## LMH6738MQ/NOPB
designator U?
Very Wideband, Low Distortion Triple Op Amp, 16-pin SSOP, Pb-Free; PartNumber: LMH6738MQ/NOPB; Manufacturer: National Semiconductor; PackageTopMarking: NSXYTT*LH67*38MQ; PowerWise: Y; CompType: Amplifiers; DatasheetVersion: Apr-2006; PackageVersion: revB, Jan-2005; PackageReference: MQA16; PackageDescription: SSOP, .150in Body Width, .025in Pitch, 16 Lead; RoHS: Y; PinCount: 16; High-Reliability: Y; Code_JEDEC: MO-137-AB; ComponentLink1Description: Manufacturer URL; ComponentLink1URL: http://www.national.com/; ComponentLink2Description: LMH6738 Datasheet; ComponentLink2URL: http://www.national.com/ds/LM/LMH6738.pdf; ComponentLink3Description: LMH6738 Web Page; ComponentLink3URL: http://www.national.com/pf/LM/LMH6738.html; ComponentLink4Description: MQA16 Package Page; ComponentLink4URL: http://www.national.com/packaging/folders/mqa16.html
footprint MQA16_N (SOP, 16-Leads, Body 4.9x3.9mm, Pitch 0.635mm, IPC Medium Density)
footprint MQA16_L (SOP, 16-Leads, Body 4.9x3.9mm, Pitch 0.635mm, IPC High Density)
footprint MQA16_M (SOP, 16-Leads, Body 4.9x3.9mm, Pitch 0.635mm, IPC Low Density)
pins on every part: 9 VS- (power), 11 VS+ (power), 13 VS- (power), 15 VS+ (power)
part A pins: 1 INA- (in), 2 INA+ (in), 14 OUTA (out), 16 ~{DIS A}
part B pins: 3 ~{DIS B}, 4 INB- (in), 5 INB+ (in), 12 OUTB (out)
part C pins: 6 ~{DIS C}, 7 INC- (in), 8 INC+ (in), 10 OUTC (out)

## LMH6738MQX
designator U?
Very Wideband, Low Distortion Triple Op Amp, 16-pin SSOP; PartNumber: LMH6738MQX; Manufacturer: National Semiconductor; PackageTopMarking: NSXYTT*LH67*38MQ; PowerWise: Y; CompType: Amplifiers; DatasheetVersion: Apr-2006; PackageVersion: revB, Jan-2005; PackageReference: MQA16; PackageDescription: SSOP, .150in Body Width, .025in Pitch, 16 Lead; RoHS: N; PinCount: 16; High-Reliability: Y; Code_JEDEC: MO-137-AB; ComponentLink1Description: Manufacturer URL; ComponentLink1URL: http://www.national.com/; ComponentLink2Description: LMH6738 Datasheet; ComponentLink2URL: http://www.national.com/ds/LM/LMH6738.pdf; ComponentLink3Description: LMH6738 Web Page; ComponentLink3URL: http://www.national.com/pf/LM/LMH6738.html; ComponentLink4Description: MQA16 Package Page; ComponentLink4URL: http://www.national.com/packaging/folders/mqa16.html
footprint MQA16_N (SOP, 16-Leads, Body 4.9x3.9mm, Pitch 0.635mm, IPC Medium Density)
footprint MQA16_L (SOP, 16-Leads, Body 4.9x3.9mm, Pitch 0.635mm, IPC High Density)
footprint MQA16_M (SOP, 16-Leads, Body 4.9x3.9mm, Pitch 0.635mm, IPC Low Density)
pins on every part: 9 VS- (power), 11 VS+ (power), 13 VS- (power), 15 VS+ (power)
part A pins: 1 INA- (in), 2 INA+ (in), 14 OUTA (out), 16 ~{DIS A}
part B pins: 3 ~{DIS B}, 4 INB- (in), 5 INB+ (in), 12 OUTB (out)
part C pins: 6 ~{DIS C}, 7 INC- (in), 8 INC+ (in), 10 OUTC (out)

## LMH6739MQ
designator U?
Very Wideband, Low Distortion Triple Video Buffer, 16-pin SSOP; PartNumber: LMH6739MQ; Manufacturer: National Semiconductor; PackageTopMarking: NSXYTT*LH67*39MQ; PowerWise: N; CompType: Amplifiers; High-Reliability: Y; DatasheetVersion: Dec-2007; PackageVersion: revB, Jan-2005; PackageReference: MQA16; PackageDescription: SSOP, .150in Body Width, .025in Pitch, 16 Lead; RoHS: N; PinCount: 16; Code_JEDEC: MO-137-AB; ComponentLink1Description: Manufacturer URL; ComponentLink1URL: http://www.national.com/; ComponentLink2Description: LMH6739 Datasheet; ComponentLink2URL: http://www.national.com/ds/LM/LMH6739.pdf; ComponentLink3Description: LMH6739 Web Page; ComponentLink3URL: http://www.national.com/pf/LM/LMH6739.html; ComponentLink4Description: MQA16 Package Page; ComponentLink4URL: http://www.national.com/packaging/folders/mqa16.html
footprint MQA16_N (SOP, 16-Leads, Body 4.9x3.9mm, Pitch 0.635mm, IPC Medium Density)
footprint MQA16_L (SOP, 16-Leads, Body 4.9x3.9mm, Pitch 0.635mm, IPC High Density)
footprint MQA16_M (SOP, 16-Leads, Body 4.9x3.9mm, Pitch 0.635mm, IPC Low Density)
pins on every part: 9 VS- (power), 11 VS+ (power), 13 VS- (power), 15 VS+ (power)
part A pins: 1 INA- (in), 2 INA+ (in), 14 OUTA (out), 16 ~{DIS A}
part B pins: 3 ~{DIS B}, 4 INB- (in), 5 INB+ (in), 12 OUTB (out)
part C pins: 6 ~{DIS C}, 7 INC- (in), 8 INC+ (in), 10 OUTC (out)

## LMH6739MQ/NOPB
designator U?
Very Wideband, Low Distortion Triple Video Buffer, 16-pin SSOP, Pb-Free; PartNumber: LMH6739MQ/NOPB; Manufacturer: National Semiconductor; PackageTopMarking: NSXYTT*LH67*39MQ; PowerWise: N; CompType: Amplifiers; High-Reliability: Y; DatasheetVersion: Dec-2007; PackageVersion: revB, Jan-2005; PackageReference: MQA16; PackageDescription: SSOP, .150in Body Width, .025in Pitch, 16 Lead; RoHS: Y; PinCount: 16; Code_JEDEC: MO-137-AB; ComponentLink1Description: Manufacturer URL; ComponentLink1URL: http://www.national.com/; ComponentLink2Description: LMH6739 Datasheet; ComponentLink2URL: http://www.national.com/ds/LM/LMH6739.pdf; ComponentLink3Description: LMH6739 Web Page; ComponentLink3URL: http://www.national.com/pf/LM/LMH6739.html; ComponentLink4Description: MQA16 Package Page; ComponentLink4URL: http://www.national.com/packaging/folders/mqa16.html
footprint MQA16_N (SOP, 16-Leads, Body 4.9x3.9mm, Pitch 0.635mm, IPC Medium Density)
footprint MQA16_L (SOP, 16-Leads, Body 4.9x3.9mm, Pitch 0.635mm, IPC High Density)
footprint MQA16_M (SOP, 16-Leads, Body 4.9x3.9mm, Pitch 0.635mm, IPC Low Density)
pins on every part: 9 VS- (power), 11 VS+ (power), 13 VS- (power), 15 VS+ (power)
part A pins: 1 INA- (in), 2 INA+ (in), 14 OUTA (out), 16 ~{DIS A}
part B pins: 3 ~{DIS B}, 4 INB- (in), 5 INB+ (in), 12 OUTB (out)
part C pins: 6 ~{DIS C}, 7 INC- (in), 8 INC+ (in), 10 OUTC (out)

## LMH6739MQX
designator U?
Very Wideband, Low Distortion Triple Video Buffer, 16-pin SSOP; PartNumber: LMH6739MQX; Manufacturer: National Semiconductor; PackageTopMarking: NSXYTT*LH67*39MQ; PowerWise: N; CompType: Amplifiers; High-Reliability: Y; DatasheetVersion: Dec-2007; PackageVersion: revB, Jan-2005; PackageReference: MQA16; PackageDescription: SSOP, .150in Body Width, .025in Pitch, 16 Lead; RoHS: N; PinCount: 16; Code_JEDEC: MO-137-AB; ComponentLink1Description: Manufacturer URL; ComponentLink1URL: http://www.national.com/; ComponentLink2Description: LMH6739 Datasheet; ComponentLink2URL: http://www.national.com/ds/LM/LMH6739.pdf; ComponentLink3Description: LMH6739 Web Page; ComponentLink3URL: http://www.national.com/pf/LM/LMH6739.html; ComponentLink4Description: MQA16 Package Page; ComponentLink4URL: http://www.national.com/packaging/folders/mqa16.html
footprint MQA16_N (SOP, 16-Leads, Body 4.9x3.9mm, Pitch 0.635mm, IPC Medium Density)
footprint MQA16_L (SOP, 16-Leads, Body 4.9x3.9mm, Pitch 0.635mm, IPC High Density)
footprint MQA16_M (SOP, 16-Leads, Body 4.9x3.9mm, Pitch 0.635mm, IPC Low Density)
pins on every part: 9 VS- (power), 11 VS+ (power), 13 VS- (power), 15 VS+ (power)
part A pins: 1 INA- (in), 2 INA+ (in), 14 OUTA (out), 16 ~{DIS A}
part B pins: 3 ~{DIS B}, 4 INB- (in), 5 INB+ (in), 12 OUTB (out)
part C pins: 6 ~{DIS C}, 7 INC- (in), 8 INC+ (in), 10 OUTC (out)

## LMH7220MG
designator U?
High Speed Comparator with LVDS Output, 6-pin SC-70; PartNumber: LMH7220MG; Manufacturer: National Semiconductor; PackageTopMarking: C38*XTT; PowerWise: Y; CompType: Amplifiers; DatasheetVersion: May-2008; PackageVersion: revB, Jun-2007; PackageReference: MAA06A; PackageDescription: Molded SC-70, 2 x 1.25 x .9mm, 6 Lead, 0.65mm Pitch; RoHS: Y; PinCount: 6; High-Reliability: Y; ComponentLink1Description: Manufacturer URL; ComponentLink1URL: http://www.national.com/; ComponentLink2Description: LMH7220 Datasheet; ComponentLink2URL: http://www.national.com/ds/LM/LMH7220.pdf; ComponentLink3Description: LMH7220 Web Page; ComponentLink3URL: http://www.national.com/pf/LM/LMH7220.html; ComponentLink4Description: MAA06A Package Page; ComponentLink4URL: http://www.national.com/packaging/folders/maa06a.html
footprint MAA06A_N (SOT363, 6-Leads, Body 2x1.3mm, Pitch 0.65mm, Lead Span 2.1mm, IPC Medium Density)
footprint MAA06A_L (SOT363, 6-Leads, Body 2x1.3mm, Pitch 0.65mm, Lead Span 2.1mm, IPC High Density)
footprint MAA06A_M (SOT363, 6-Leads, Body 2x1.3mm, Pitch 0.65mm, Lead Span 2.1mm, IPC Low Density)
pins: 1 IN- (in), 2 GND (power), 3 OUT ~{Q} (out), 4  OUT Q (out), 5 VCC (power), 6 IN+ (in)

## LMH7220MG/NOPB
designator U?
High Speed Comparator with LVDS Output, 6-pin SC-70, Pb-Free; PartNumber: LMH7220MG/NOPB; Manufacturer: National Semiconductor; PackageTopMarking: C38*XTT; PowerWise: Y; CompType: Amplifiers; DatasheetVersion: May-2008; PackageVersion: revB, Jun-2007; PackageReference: MAA06A; PackageDescription: Molded SC-70, 2 x 1.25 x .9mm, 6 Lead, 0.65mm Pitch; RoHS: Y; PinCount: 6; High-Reliability: Y; ComponentLink1Description: Manufacturer URL; ComponentLink1URL: http://www.national.com/; ComponentLink2Description: LMH7220 Datasheet; ComponentLink2URL: http://www.national.com/ds/LM/LMH7220.pdf; ComponentLink3Description: LMH7220 Web Page; ComponentLink3URL: http://www.national.com/pf/LM/LMH7220.html; ComponentLink4Description: MAA06A Package Page; ComponentLink4URL: http://www.national.com/packaging/folders/maa06a.html
footprint MAA06A_N (SOT363, 6-Leads, Body 2x1.3mm, Pitch 0.65mm, Lead Span 2.1mm, IPC Medium Density)
footprint MAA06A_L (SOT363, 6-Leads, Body 2x1.3mm, Pitch 0.65mm, Lead Span 2.1mm, IPC High Density)
footprint MAA06A_M (SOT363, 6-Leads, Body 2x1.3mm, Pitch 0.65mm, Lead Span 2.1mm, IPC Low Density)
pins: 1 IN- (in), 2 GND (power), 3 OUT ~{Q} (out), 4  OUT Q (out), 5 VCC (power), 6 IN+ (in)

## LMH7220MK
designator U?
High Speed Comparator with LVDS Output, 6-pin Tiny SOT23; PartNumber: LMH7220MK; Manufacturer: National Semiconductor; PackageTopMarking: C29A*XTT; PowerWise: Y; CompType: Amplifiers; DatasheetVersion: May-2008; PackageVersion: revE, Nov-2008; PackageReference: MK06A; PackageDescription: Molded TSOT, 2.97 x 1.65 x 0.87mm Body, 6 Lead, 0.95mm Pitch; RoHS: N; PinCount: 6; High-Reliability: Y; Code_JEDEC: MO-193-AA; Code_IPC: SOT26A-6; ComponentLink1Description: Manufacturer URL; ComponentLink1URL: http://www.national.com/; ComponentLink2Description: LMH7220 Datasheet; ComponentLink2URL: http://www.national.com/ds/LM/LMH7220.pdf; ComponentLink3Description: LMH7220 Web Page; ComponentLink3URL: http://www.national.com/pf/LM/LMH7220.html; ComponentLink4Description: MK06A Package Page; ComponentLink4URL: http://www.national.com/packaging/folders/mk06a.html
footprint MK06A_N (SOT23, 6-Leads, Body 3.0x1.7mm, Pitch 0.95mm, Lead Span 2.9mm, IPC Medium Density)
footprint MK06A_L (SOT23, 6-Leads, Body 3.0x1.7mm, Pitch 0.95mm, Lead Span 2.9mm, IPC High Density)
footprint MK06A_M (SOT23, 6-Leads, Body 3.0x1.7mm, Pitch 0.95mm, Lead Span 2.9mm, IPC Low Density)
pins: 1 IN- (in), 2 GND (power), 3 OUT ~{Q} (out), 4  OUT Q (out), 5 VCC (power), 6 IN+ (in)